# Altium footprint library 691 221 120 0xx.PcbLib: 6 footprints
Each footprint in its own frame and in the unit in brackets; x right, y up, seen from the top. Pads: shape width x height; smd on the part's side, far side on the other; paste and mask are expansions set on the pad; w line width, h text height; cw(c..) or ccw(c..) is an arc to the next point about the centre after c.
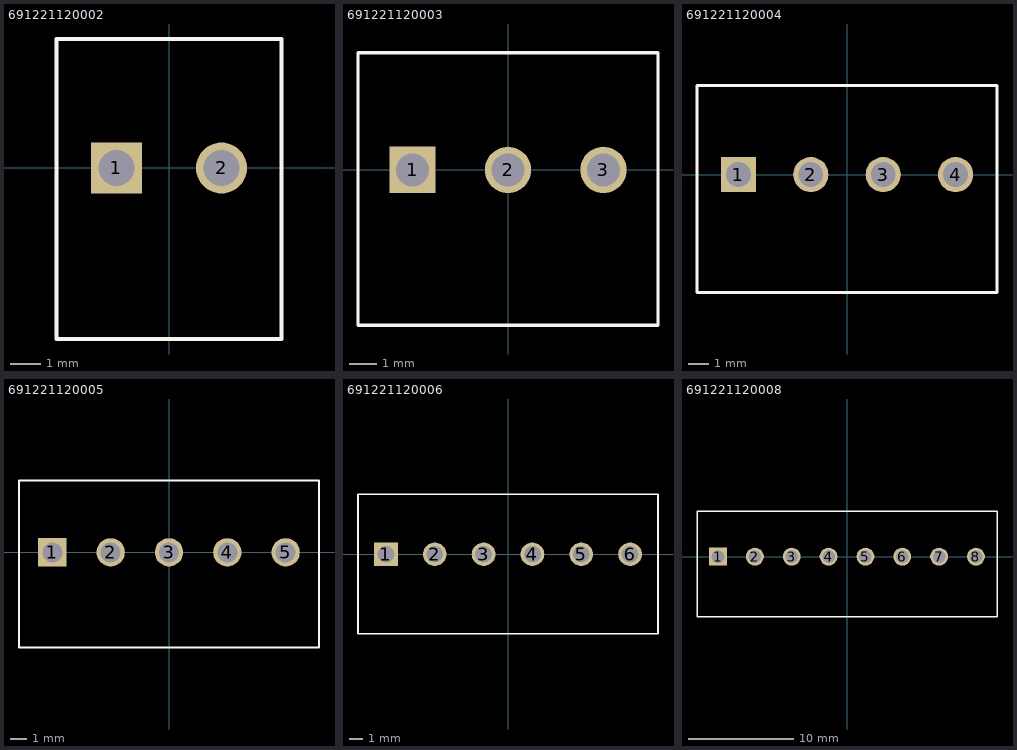
[diagram p0: the footprints below, top view; thin cyan lines are the x and y axes]

## 691221120002 [mm] "3,50mm - modular - green - 55° wire entry - Cage clamp - 02p"
height 9.5
pads (2):
  rect 1.7x1.7 hole 1.2: 1(-1.75,0)
  round 1.7 hole 1.2: 2(1.75,0)
Top Overlay:
  lines w0.127: -3.75,-5.7 -3.75,4.3 3.75,4.3 3.75,-5.7 -3.75,-5.7
3D body: height 9.51, standoff -3.49, extent -3.75,-5.7 3.75,4.3

## 691221120003 [mm] "3,50mm - modular - green - 55° wire entry - Cage clamp - 03p"
height 9.5
pads (3):
  rect 1.7x1.7 hole 1.2: 1(-3.5,0)
  round 1.7 hole 1.2: 2(0,0) 3(3.5,0)
Top Overlay:
  lines w0.127: -5.5,-5.7 5.5,-5.7 5.5,4.3 -5.5,4.3 -5.5,-5.7
3D body: height 9.51, standoff -3.49, extent -5.5,-5.7 5.5,4.3

## 691221120004 [mm] "3,50mm - modular - green - 55° wire entry - Cage clamp - 04p"
height 9.5
pads (4):
  rect 1.7x1.7 hole 1.2: 1(-5.25,0)
  round 1.7 hole 1.2: 2(-1.75,0) 3(1.75,0) 4(5.25,0)
Top Overlay:
  lines w0.127: -7.25,-5.7 7.25,-5.7 7.25,4.3 -7.25,4.3 -7.25,-5.7
3D body: height 9.51, standoff -3.49, extent -7.25,-5.7 7.25,4.3

## 691221120005 [mm] "3,50mm - modular - green - 55° wire entry - Cage clamp - 05p"
height 9.5
pads (5):
  rect 1.7x1.7 hole 1.2: 1(-7,0)
  round 1.7 hole 1.2: 2(-3.5,0) 3(0,0) 4(3.5,0) 5(7,0)
Top Overlay:
  lines w0.127: -9,-5.7 -9,4.3 9,4.3 9,-5.7 -9,-5.7
3D body: height 9.51, standoff -3.49, extent -9,-5.7 9,4.3

## 691221120006 [mm] "3,50mm - modular - green - 55° wire entry - Cage clamp - 06p"
height 9.5
pads (6):
  rect 1.7x1.7 hole 1.2: 1(-8.75,0)
  round 1.7 hole 1.2: 2(-5.25,0) 3(-1.75,0) 4(1.75,0) 5(5.25,0) 6(8.75,0)
Top Overlay:
  lines w0.127: -10.75,-5.7 -10.75,4.3 10.75,4.3 10.75,-5.7 -10.75,-5.7
3D body: height 9.51, standoff -3.49, extent -10.75,-5.7 10.75,4.3

## 691221120008 [mm] "3,50mm - modular - green - 55° wire entry - Cage clamp - 08p"
height 9.5
pads (8):
  rect 1.7x1.7 hole 1.2: 1(-12.25,0)
  round 1.7 hole 1.2: 2(-8.75,0) 3(-5.25,0) 4(-1.75,0) 5(1.75,0) 6(5.25,0) 7(8.75,0) 8(12.25,0)
Top Overlay:
  lines w0.127: -14.25,-5.7 -14.25,4.3 14.25,4.3 14.25,-5.7 -14.25,-5.7
3D body: height 9.51, standoff -3.49, extent -14.25,-5.7 14.25,4.3